# Altium schematic symbol library SN74LS20N.SchLib: 2 symbols
Pins are listed as number, name and electrical type; pins without a type are passive.

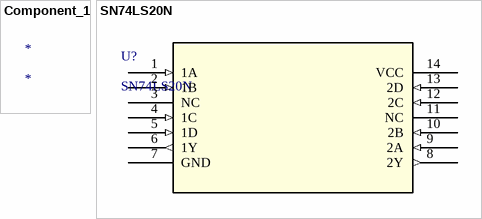
[diagram p0: symbols Component_1 to SN74LS20N]

## Component_1
designator *

## SN74LS20N
designator U?
No Description Available; Mfr_Name: Texas Instruments; Copyright: Copyright (C) 2022 Ultra Librarian. All rights reserved.; Manufacturer_Part_Number: SN74LS20N; RefDes: RefDes; Type: DEV
footprint N14
pins: 1 1A (in), 2 1B (in), 3 NC, 4 1C (in), 5 1D (in), 6 1Y (out), 7 GND (power), 8 2Y (out), 9 2A (in), 10 2B (in), 11 NC, 12 2C (in), 13 2D (in), 14 VCC (power)